# Altium schematic symbol library CH340K.Schlib: 1 symbol
Pins are listed as number, name and electrical type; pins without a type are passive.

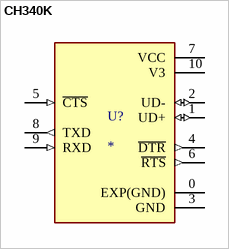
[diagram p0: symbol CH340K]

## CH340K
designator U?
USB to Serial Port Chip; MF: WCH; MP: CH340K; SnapEDA_Link: https://www.snapeda.com/parts/CH340K/WCH/view-part/?ref=snap; Package: Package; Value: *; Check_prices: https://www.snapeda.com/parts/CH340K/WCH/view-part/?ref=eda
footprint ESSOP-10
pins: 0 EXP(GND) (power), 1 UD+ (io), 2 UD- (io), 3 GND (power), 4 ~{DTR} (out), 5 ~{CTS} (in), 6 ~{RTS} (out), 7 VCC (power), 8 TXD (out), 9 RXD (in), 10 V3 (power)